# Altium schematic symbol library lm258.SchLib: 2 symbols
Pins are listed as number, name and electrical type; pins without a type are passive.

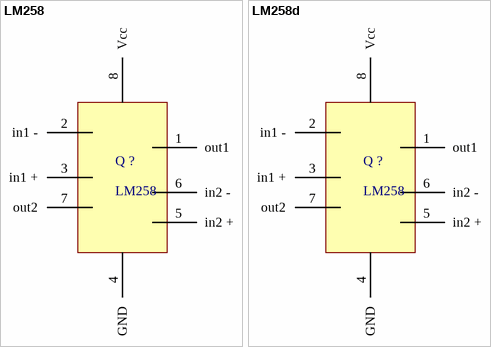
[diagram p0: symbols LM258 to LM258d]

## LM258
designator Q ?
footprint DIP-8 (DIP; 8 Leads; Row Spacing 7.62 mm; Pitch 2.54 mm)
pins: 1 out1, 2 in1 -, 3 in1 +, 4 GND, 5 in2 +, 6 in2 -, 7 out2, 8 Vcc

## LM258d
designator Q ?, comment LM258
footprint SO8_L (SOIC, 8-Leads, Body 4.9x3.9mm, Pitch 1.27mm, IPC High Density)
pins: 1 out1, 2 in1 -, 3 in1 +, 4 GND, 5 in2 +, 6 in2 -, 7 out2, 8 Vcc